# Altium footprint library EsoCore.PcbLib: 105 footprints (part 1 of 7)
Each footprint in its own frame and in the unit in brackets; x right, y up, seen from the top. Pads: shape width x height; smd on the part's side, far side on the other; paste and mask are expansions set on the pad; w line width, h text height; cw(c..) or ccw(c..) is an arc to the next point about the centre after c.
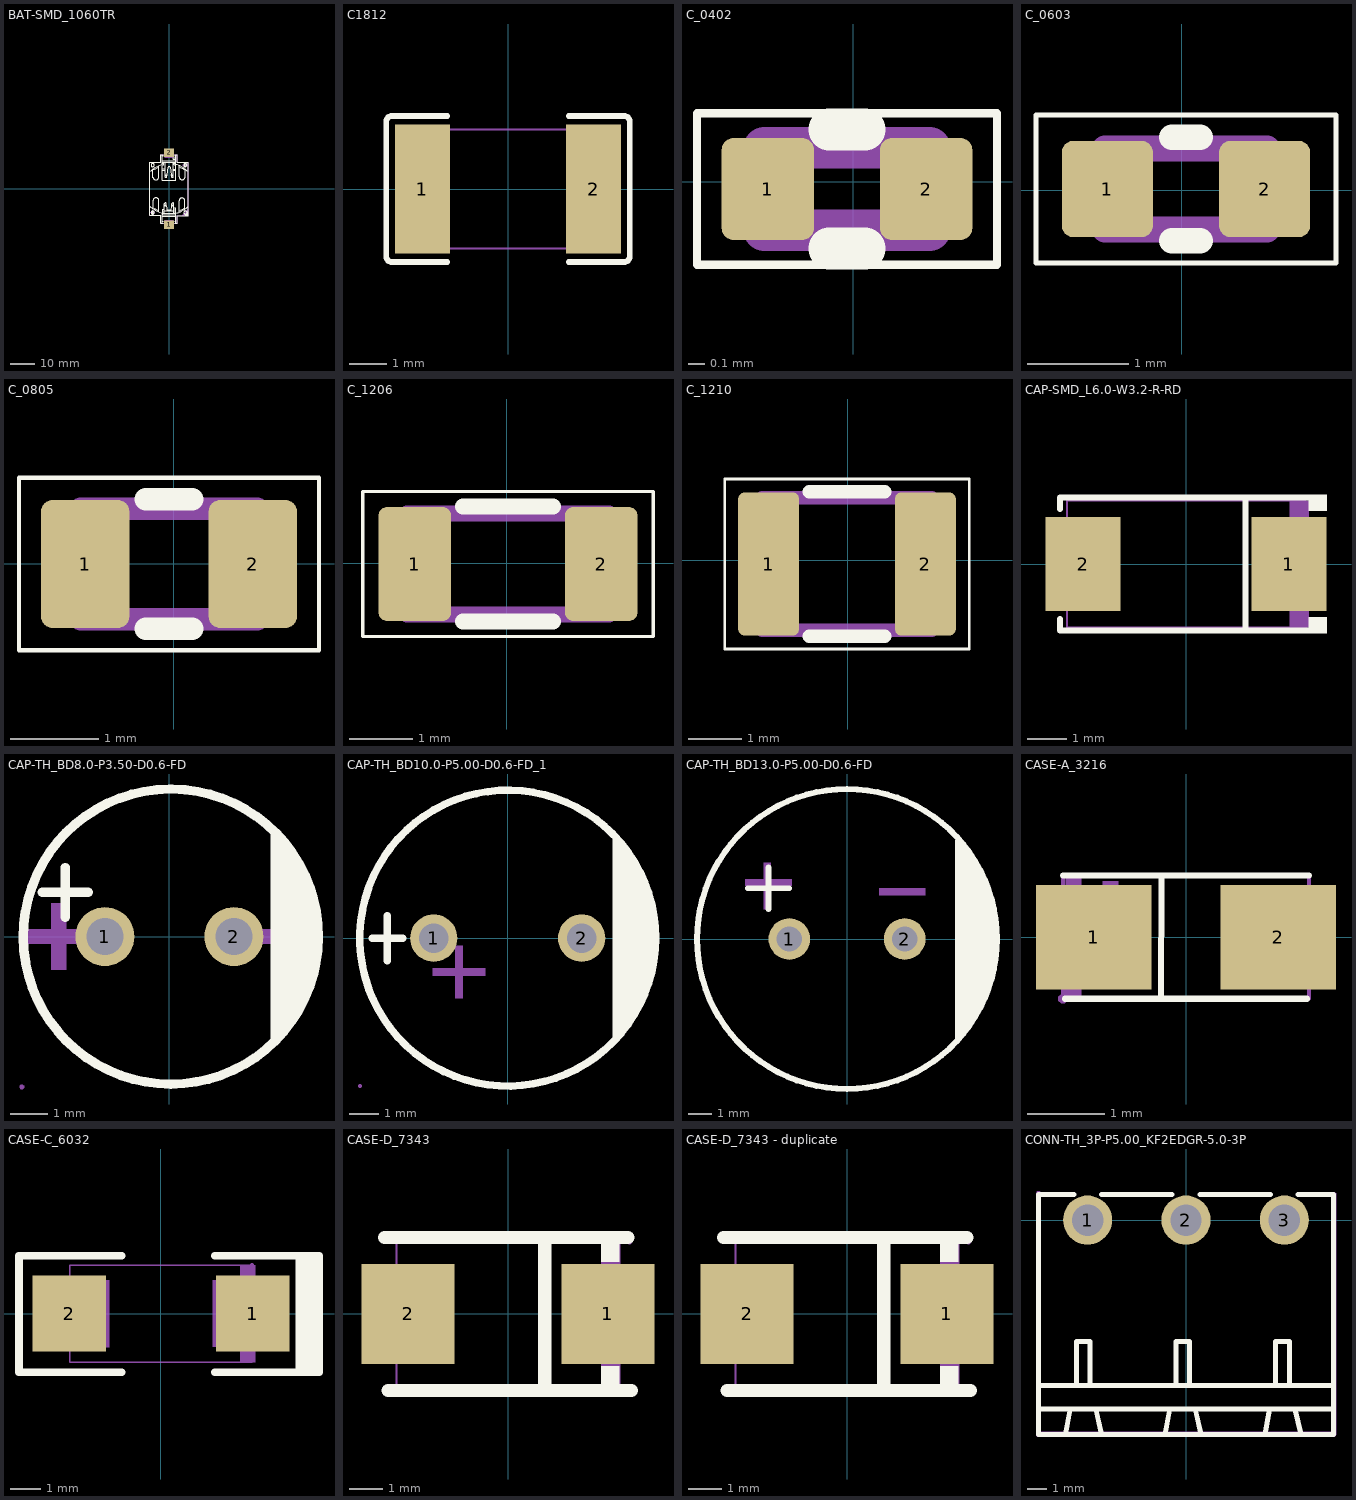
[diagram p0: the footprints below, top view; thin cyan lines are the x and y axes]

## BAT-SMD_1060TR [mm]
pads (2):
  rect 4.2x3.5 smd: 1(0,-14.988) 2(0,14.988)
Top Overlay:
  region: 7.9,-9.9 8,-9.8 8,-11.1 6.7,-11.1
  lines w0.254: -7.958,7.046 cw(c0.175,-0.902) -2.946,10.033 ; -7.95,-7.214 ccw(c-0.087,1.002) -2.72,-10.061 ; -7.442,-9.855 -6.172,-9.855 ; -6.807,-10.516 -6.807,-9.271 ; -6.706,8.077 -6.121,8.077 ccw(c-20.107,33.378) -4.267,9.195 ; -6.68,-8.179 -6.096,-8.179 cw(c-20.082,-33.48) -4.242,-9.296 ; -6.68,4.724 -6.68,8.179 ; -6.68,4.75 ccw(c-5.472,4.985) -4.242,4.928 ; -6.655,-8.153 -6.655,-4.699 cw(c-5.446,-4.935) -4.216,-4.877 -4.216,-9.576 ; -6.142,-9.863 cw(c-6.806,-9.856) -6.142,-9.85 ; -6.142,9.848 cw(c-6.806,9.854) -6.142,9.86 ; -4.242,4.902 -4.242,9.601 ; -2.896,10.744 -2.311,10.744 ; -2.896,14.2 -2.896,12.954 -2.896,12.319 -2.896,11.938 -2.896,3.632 -2.845,3.581 2.896,3.581 2.896,11.913 2.896,12.294 ; -2.87,13.792 -2.331,13.792 ; -2.845,11.176 2.896,11.176 ; -2.819,7.696 -1.676,7.696 ; -2.819,8.28 -1.676,8.28 ; -2.799,10.033 -2.261,10.033 -2.261,11.176 ; -2.794,11.659 2.819,11.659 ; -2.719,-13.554 -2.331,-13.554 ; -2.718,-14.176 -2.718,-10.744 ccw(c-2.692,-10.744) -2.692,-10.77 2.794,-10.77 ; -2.718,-11.328 ccw(c-2.667,-11.328) -2.667,-11.379 2.743,-11.379 ; -2.667,-10.744 -2.667,-8.534 -1.93,-8.534 -1.93,-9.982 ; -2.644,-10.135 cw(c-2.646,-10.06) -2.72,-10.061 ; -2.642,-9.449 -1.93,-9.449 ; -2.331,-14.2 -3.5,-14.2 -3.5,-11 -8,-11 -8,11 -3.5,11 -3.5,14.2 -2.331,14.2 ; -1.981,-10.033 cw(c-1.981,-10.084) -1.93,-10.084 ; -1.93,-9.119 -1.93,-6.198 cw(c-1.499,-6.282) -1.067,-6.198 -1.067,-6.553 ; -1.93,-6.985 -1.067,-6.985 ; -1.93,-6.553 -1.067,-6.553 ; -1.854,-9.093 2.057,-9.093 2.057,-6.172 ccw(c1.626,-6.257) 1.194,-6.172 1.194,-6.528 ; -1.626,5.563 -0.864,5.563 ; -1.626,11.151 -1.626,4.75 -1.118,4.75 -0.914,4.75 -0.914,5.512 -0.711,5.715 -0.711,5.918 ; -1.6,5.918 -0.711,5.918 ; -0.855,-8.763 0.94,-8.763 ; -0.813,-9.065 -1.067,-7.082 -1.067,-6.553 ; 0.94,-9.039 1.212,-6.915 ; 0.991,5.563 1.753,5.563 ; 1.727,5.918 0.838,5.918 ; 1.753,7.671 2.896,7.671 ; 1.753,8.255 2.896,8.255 ; 1.753,11.151 1.753,4.75 1.245,4.75 1.041,4.75 1.041,5.512 0.838,5.715 0.838,5.918 ; 2.057,-10.084 2.057,-8.636 2.794,-8.636 ; 2.057,-6.96 1.194,-6.96 1.194,-6.528 ; 2.057,-6.528 1.194,-6.528 ; 2.083,-9.55 2.794,-9.55 ; 2.108,-7.874 2.794,-7.874 2.794,-8.636 ; 2.261,11.176 2.261,10.033 2.799,10.033 ; 2.311,10.744 2.896,10.744 ; 2.331,-14.2 3.5,-14.2 3.5,-11.1 ; 2.331,-13.554 2.794,-13.554 ; 2.331,13.792 2.896,13.792 ; 2.331,14.2 3.5,14.2 3.5,11 8.001,11 ; 2.743,-14.2 2.743,-12.065 2.743,-10.135 ; 2.743,-10.061 -2.72,-10.061 ; 2.794,-10.185 ccw(c2.743,-10.185) 2.743,-10.135 ; 2.794,-10.084 2.794,-8.636 ; 2.883,10.117 cw(c-0.217,-0.824) 8.001,7.036 ; 2.896,13.03 1.702,13.03 1.702,12.294 2.896,12.294 ; 2.896,14.173 2.896,12.294 ; 4.191,-9.652 4.191,-4.953 cw(c5.421,-5.011) 6.629,-4.775 6.629,-8.23 ; 4.216,9.246 ccw(c20.056,33.429) 6.071,8.128 6.655,8.128 6.655,8.28 6.655,4.826 cw(c5.446,5.062) 4.216,5.004 4.216,9.652 ; 4.242,-9.347 cw(c20.082,-33.53) 6.096,-8.23 6.68,-8.23 ; 6.706,9.195 6.706,10.49 ; 7.371,9.848 cw(c6.706,9.854) 7.371,9.86 ; 7.498,-9.863 cw(c6.833,-9.856) 7.498,-9.85 ; 7.973,-7.287 cw(c0.11,0.928) 2.743,-10.135 ; 8,-9.681 8,-11.1 6.7,-11.1 ; 8,11 8,-9.8 6.7,-11.1 ; -0.711,5.918 -0.305,9.093 cw(c0.064,8.725) 0.432,9.093 0.838,5.918 ; 3.5,-11.1 3.81,-11.1 6.7,-11.1 ; 3.5,-11.1 3.5,-11.1
Mechanical 6:
  region: 8,-9.7 8,-11.1 5.6,-11.1 5.3,-11.1 8,-8.3
  region: -7.75,-9.65 -5.95,-9.65 -5.95,-9.95 -7.75,-9.95 -7.75,-9.85
  region: -7,-10.7 -7,-8.9 -6.7,-8.9 -6.7,-10.7 -6.8,-10.7
  region: 5.8,10 7.6,10 7.6,9.7 5.8,9.7 5.8,9.8
Mechanical 15:
  region: 8.06,-15.95 8.06,-15.975 8.025,-16.01 7.975,-16.01 7.94,-15.975 7.94,-15.95 7.94,-15.925 7.975,-15.89 8.025,-15.89 8.06,-15.925 8.06,-15.95
  region: -1.805,-15.95 -1.805,-12.95 1.805,-12.95 1.805,-15.95
  region: -1.805,12.95 -1.805,15.95 1.805,15.95 1.805,12.95
  lines w0.051: -8,-11 -8,11 -3.5,11 -3.5,14.2 -0.1,14.2 3.5,14.2 3.5,11 8,11 8,-9.8 6.7,-11 3.5,-11.1 3.5,-14.2 0,-14.2 -3.5,-14.2 -3.5,-11 -8,-11
3D body "CR2032 Lithium Battery-AP214.STEP": height 5.21, standoff 2, extent -9.957,-9.995 10.033,9.995
3D body "BAT23.step": height 5.6, standoff 0, extent -8,-15.65 8,15.65

## C1812 [mm]
pads (2):
  rect 1.485x3.456 smd paste-100 mask+0.051: 1(-2.293,0) 2(2.293,0)
Top Overlay:
  lines w0.152: -1.626,-1.957 -3.111,-1.957 cw(c-3.111,-1.804) -3.264,-1.804 -3.264,1.804 cw(c-3.111,1.804) -3.111,1.957 -1.626,1.957 ; 1.626,-1.957 3.111,-1.957 ccw(c3.111,-1.804) 3.264,-1.804 3.264,1.804 ccw(c3.111,1.804) 3.111,1.957 1.626,1.957
Top Paste:
  region: -1.55,-1.628 -1.55,-0.688 -1.65,-0.588 -1.955,-0.588 -2.055,-0.488 -2.055,0.488 -1.955,0.588 -1.65,0.588 -1.55,0.688 -1.55,1.628 -1.65,1.728 -2.935,1.728 -3.035,1.628 -3.035,-1.628 -2.935,-1.728 -1.65,-1.728
  region: 1.55,-1.628 1.55,-0.688 1.65,-0.588 1.955,-0.588 2.055,-0.488 2.055,0.488 1.955,0.588 1.65,0.588 1.55,0.688 1.55,1.628 1.65,1.728 2.935,1.728 3.035,1.628 3.035,-1.628 2.935,-1.728 1.65,-1.728
Mechanical 15:
  region: 2.3,-1.6 2.3,1.6 1.8,1.6 1.8,-1.6
  region: -2.3,-1.6 -2.3,1.6 -1.8,1.6 -1.8,-1.6
  region: -2.24,-1.6 -2.24,-1.625 -2.275,-1.66 -2.325,-1.66 -2.36,-1.625 -2.36,-1.6 -2.36,-1.575 -2.325,-1.54 -2.275,-1.54 -2.24,-1.575 -2.24,-1.6
  lines w0.051: -2.3,-1.6 2.3,-1.6 2.3,1.6 -2.3,1.6 -2.3,-1.6
3D body "c1812.step": height 2.6, standoff 0, extent -2.25,-1.6 2.25,1.6

## C_0402 [mm]
pads (2):
  rrect25% 0.56x0.62 smd mask+0: 1(-0.518,-0.044) 2(0.442,-0.044)
Top Overlay:
  lines w0.051: -0.948,-0.504 -0.948,0.416 0.872,0.416 0.872,-0.504 -0.948,-0.504
  lines w0.254: -0.146,-0.404 0.07,-0.404 ; -0.146,0.316 0.07,0.316
Mechanical 10:
  lines w0.254: -0.538,-0.294 0.462,-0.294 0.462,0.206 -0.538,0.206 -0.538,-0.294
  text "'.Designator'" at -0.882,-0.139 h0.25
3D body "C_0402_1005Metric.step": height 0.5, standoff 0, extent -0.54,-0.29 0.46,0.21

## C_0603 [mm]
pads (2):
  rrect25% 0.9x0.95 smd mask+0: 1(-0.731,0.012) 2(0.819,0.012)
Top Overlay:
  lines w0.051: -1.436,-0.718 -1.436,0.742 1.524,0.742 1.524,-0.718 -1.436,-0.718
  lines w0.254: -0.096,-0.498 0.185,-0.498 ; -0.096,0.522 0.185,0.522
Mechanical 10:
  lines w0.254: -0.756,-0.388 -0.756,0.412 0.844,0.412 0.844,-0.388 -0.756,-0.388
  text "'.Designator'" at -1.605,-0.198 h0.4
3D body "C_0603_1608Metric.step": height 0.8, standoff 0, extent -0.741,-0.39 0.859,0.41

## C_0805 [mm]
pads (2):
  rrect25% 1x1.45 smd mask+0: 1(-1.001,-0.005) 2(0.899,-0.005)
Top Overlay:
  lines w0.051: -1.751,-0.985 1.649,-0.985 1.649,0.975 -1.751,0.975 -1.751,-0.985
  lines w0.254: -0.313,-0.74 0.21,-0.74 ; -0.313,0.73 0.21,0.73
Mechanical 10:
  lines w0.254: -1.051,-0.63 0.949,-0.63 0.949,0.62 -1.051,0.62 -1.051,-0.63
  text "'.Designator'" at -1.942,-0.168 h0.5
3D body "C_0805_2012Metric.step": height 1.25, standoff 0, extent -1.05,-0.635 0.95,0.615

## C_1206 [mm]
pads (2):
  rrect22% 1.15x1.8 smd mask+0: 1(-1.458,-0.009) 2(1.492,-0.009)
Top Overlay:
  lines w0.051: -2.283,-1.159 -2.283,1.141 2.317,1.141 2.317,-1.159 -2.283,-1.159
  lines w0.254: -0.694,-0.919 0.728,-0.919 ; -0.694,0.901 0.728,0.901
Mechanical 10:
  lines w0.254: -1.583,-0.809 -1.583,0.791 1.617,0.791 1.617,-0.809 -1.583,-0.809
  text "'.Designator'" at -3.13,-0.307 h0.8
3D body "C_1206_3216Metric.step": height 1.6, standoff 0, extent -1.58,-0.81 1.62,0.79

## C_1210 [mm]
pads (2):
  rrect22% 1.15x2.7 smd mask+0: 1(-1.491,-0.074) 2(1.459,-0.074)
Top Overlay:
  lines w0.051: -2.316,-1.674 -2.316,1.526 2.284,1.526 2.284,-1.674 -2.316,-1.674
  lines w0.254: -0.728,-1.434 0.695,-1.434 ; -0.728,1.286 0.695,1.286
Mechanical 10:
  lines w0.254: -1.616,-1.324 -1.616,1.176 1.584,1.176 1.584,-1.324 -1.616,-1.324
  text "'.Designator'" at -1.094,-0.594 h0.8
3D body "C_1210_3225Metric.step": height 2.5, standoff 0, extent -1.61,-1.319 1.59,1.181

## CAP-SMD_L6.0-W3.2-R-RD [mm]
pads (2):
  rect 1.9x2.376 smd: 1(2.6,0) 2(-2.6,0)
Top Overlay:
  region: 3.1,1.752 3.1,1.34 3.557,1.34 3.557,1.752
  region: 3.1,-1.752 3.1,-1.34 3.557,-1.34 3.557,-1.752
  lines w0.152: -3.176,-1.391 -3.176,-1.676 3.176,-1.676 ; -3.176,1.391 -3.176,1.676 3.176,1.676 ; 1.505,-1.672 1.505,1.681
Mechanical 6:
  region: -2.86,-0.12 -2.86,0.12 -1.9,0.12 -1.9,-0.12
  region: 2.86,-0.12 2.86,0.12 1.9,0.12 1.9,-0.12
  region: 2.5,-0.8 2.5,0.8 2.26,0.8 2.26,-0.8
  region: 3.1,-1.6 3.1,-0.8 2.62,-0.8 2.62,-1.6
  region: 3.1,1.6 3.1,0.8 2.62,0.8 2.62,1.6
Mechanical 15:
  region: -3,-1.1 -3,1.1 -1.7,1.1 -1.7,-1.1
  region: 3,-1.1 3,1.1 1.7,1.1 1.7,-1.1
  region: 3.06,-1.6 3.06,-1.625 3.025,-1.66 2.975,-1.66 2.94,-1.625 2.94,-1.6 2.94,-1.575 2.975,-1.54 3.025,-1.54 3.06,-1.575 3.06,-1.6
  lines w0.051: -3,-1.6 -3,1.6 3,1.6 3,-1.6 -3,-1.6
3D body "CASE CX.step": height 2.8, standoff 0, extent -3,-1.6 3,1.6

## CAP-TH_BD8.0-P3.50-D0.6-FD [mm]
pads (2):
  round 1.6 hole 1: 1(-1.75,0) 2(1.75,0)
Top Overlay:
  region: 2.75,-3 2.941,-2.8 3.268,-2.355 3.536,-1.872 3.741,-1.359 3.88,-0.824 3.95,-0.276 3.95,0.276 3.88,0.824 3.741,1.359 3.536,1.872 3.268,2.355 2.941,2.8 2.75,3
  lines w0.254: -3.445,1.2 -2.2,1.2 ; -2.822,0.527 -2.822,1.873 ; 0.003,4 ccw(c0.038,0.001) 0.074,4
Mechanical 6:
  region: -3.2,0.5 -3.2,-0.9 -2.8,-0.9 -2.8,0.7 -2.8,0.9 -3.2,0.9
  region: -2.5,0.2 -3.9,0.2 -3.9,-0.2 -2.3,-0.2 -2.1,-0.2 -2.1,0.2
  region: 3.5,0.2 2.1,0.2 2.1,-0.2 3.7,-0.2 3.9,-0.2 3.9,0.2
Mechanical 15:
  region: -1.45,0 -1.45,-0.06 -1.496,-0.17 -1.58,-0.254 -1.69,-0.3 -1.81,-0.3 -1.92,-0.254 -2.004,-0.17 -2.05,-0.06 -2.05,0 -2.05,0.06 -2.004,0.17 -1.92,0.254 -1.81,0.3 -1.69,0.3 -1.58,0.254 -1.496,0.17 -1.45,0.06 -1.45,0
  region: 2.05,0 2.05,-0.06 2.004,-0.17 1.92,-0.254 1.81,-0.3 1.69,-0.3 1.58,-0.254 1.496,-0.17 1.45,-0.06 1.45,0 1.45,0.06 1.496,0.17 1.58,0.254 1.69,0.3 1.81,0.3 1.92,0.254 2.004,0.17 2.05,0.06 2.05,0
  region: -3.941,-4.072 -3.941,-4.096 -3.976,-4.132 -4.026,-4.132 -4.061,-4.096 -4.061,-4.072 -4.061,-4.047 -4.026,-4.012 -3.976,-4.012 -3.941,-4.047 -3.941,-4.072
  lines w0.051: -0.003,-4.072 cw(c-0.001,-0.072) 0,-4.072 -0.003,-4.072
3D body "super_cap20f.step": height 8, standoff -3.5, extent -4,-4 4,4

## CAP-TH_BD10.0-P5.00-D0.6-FD_1 [mm]
pads (2):
  round 1.6 hole 1 paste-2539.97 mask+0.05: 1(-2.5,0) 2(2.5,0)
Top Overlay:
  circle w0.254: c0,0 r5
  region: 3.556,3.556 3.556,-3.556 4.318,-2.54 4.826,-1.016 5.08,0.508 4.826,1.524
  lines w0.254: -4.572,0 -3.556,0 ; -4.064,-0.762 -4.064,0.762
Mechanical 6:
  region: -1.778,-0.762 -1.778,-2.032 -1.524,-2.032 -1.524,-0.254 -1.778,-0.254
  region: -2.54,-1.016 -0.762,-1.016 -0.762,-1.27 -2.54,-1.27
Mechanical 15:
  region: -4.94,-5 -4.94,-5.025 -4.975,-5.06 -5.025,-5.06 -5.06,-5.025 -5.06,-5 -5.06,-4.975 -5.025,-4.94 -4.975,-4.94 -4.94,-4.975 -4.94,-5
  region: 2.8,0 2.8,-0.06 2.754,-0.17 2.67,-0.254 2.56,-0.3 2.44,-0.3 2.33,-0.254 2.246,-0.17 2.2,-0.06 2.2,0 2.2,0.06 2.246,0.17 2.33,0.254 2.44,0.3 2.56,0.3 2.67,0.254 2.754,0.17 2.8,0.06 2.8,0
  region: -2.2,0 -2.2,-0.06 -2.246,-0.17 -2.33,-0.254 -2.44,-0.3 -2.56,-0.3 -2.67,-0.254 -2.754,-0.17 -2.8,-0.06 -2.8,0 -2.8,0.06 -2.754,0.17 -2.67,0.254 -2.56,0.3 -2.44,0.3 -2.33,0.254 -2.246,0.17 -2.2,0.06 -2.2,0
  lines w0.051: -5,0 cw(c0,0) 5,0 cw(c0,0) -5,0
3D body "470uf.step": height 12.41, standoff -3.5, extent -5.005,-4.995 5.005,4.99

## CAP-TH_BD13.0-P5.00-D0.6-FD [mm]
pads (2):
  round 1.8 hole 1.1: 1(-2.5,0) 2(2.5,0)
Top Overlay:
  circle w0.254: c-0.001,0 r6.5
  region: 4.7,4.3 4.7,-4.5 5.8,-3 6.3,-1.7 6.4,-0.5 6.3,1.5 5.7,3.2
  lines w0.254: -4.301,2.2 -2.501,2.2 ; -3.401,1.3 -3.401,3.1
Mechanical 6:
  region: 4.72,4.286 4.72,-4.514 5.82,-3.014 6.32,-1.714 6.42,-0.514 6.32,1.486 5.72,3.186
  region: -4.4,2.6 -2.5,2.6 -2.4,2.6 -2.4,2.5 -2.4,2.3 -4.4,2.3
  region: -3.6,1.3 -3.6,3.2 -3.6,3.3 -3.5,3.3 -3.3,3.3 -3.3,1.3
  region: 1.4,2.2 3.3,2.2 3.4,2.2 3.4,2.1 3.4,1.9 1.4,1.9
Mechanical 15:
  region: -2.2,0 -2.2,-0.06 -2.246,-0.17 -2.33,-0.254 -2.44,-0.3 -2.56,-0.3 -2.67,-0.254 -2.754,-0.17 -2.8,-0.06 -2.8,0 -2.8,0.06 -2.754,0.17 -2.67,0.254 -2.56,0.3 -2.44,0.3 -2.33,0.254 -2.246,0.17 -2.2,0.06 -2.2,0
  region: 2.8,0 2.8,-0.06 2.754,-0.17 2.67,-0.254 2.56,-0.3 2.44,-0.3 2.33,-0.254 2.246,-0.17 2.2,-0.06 2.2,0 2.2,0.06 2.246,0.17 2.33,0.254 2.44,0.3 2.56,0.3 2.67,0.254 2.754,0.17 2.8,0.06 2.8,0
  lines w0.051: -6.5,0 cw(c0,0) 6.5,0 cw(c0,0) -6.5,0
3D body "cap1000ufx.step": height 20.01, standoff -3.5, extent -6.255,-6.239 6.255,6.239

## CASE-A_3216 [mm]
pads (2):
  rect 1.5x1.359 smd: 1(-1.2,0) 2(1.2,0)
Top Overlay:
  lines w0.08: -1.6,0.8 1.6,0.8 ; -1.575,-0.8 1.575,-0.8 ; -0.323,-0.8 -0.32,0.8
Mechanical 6:
  region: 1.501,0.13 1.501,-0.08 0.661,-0.08 0.661,0.13
  region: -1.563,0.813 -1.36,0.813 -1.36,0.483 -1.563,0.483
  region: -1.363,-0.813 -1.567,-0.813 -1.567,-0.483 -1.363,-0.483
  region: -0.61,0.13 -0.61,-0.08 -1.45,-0.08 -1.45,0.13
  region: -1.081,0.724 -0.878,0.724 -0.878,-0.673 -1.081,-0.673
Mechanical 15:
  region: -1.6,-0.74 -1.575,-0.74 -1.54,-0.775 -1.54,-0.825 -1.575,-0.86 -1.6,-0.86 -1.625,-0.86 -1.66,-0.825 -1.66,-0.775 -1.625,-0.74 -1.6,-0.74
  region: -0.8,0.625 -0.8,-0.575 -1.6,-0.575 -1.6,0.625
  region: 1.6,0.625 1.6,-0.575 0.8,-0.575 0.8,0.625
  lines w0.051: -1.6,-0.8 1.6,-0.8 1.6,0.8 -1.6,0.8 -1.6,-0.8
3D body "CASEAX.step": height 1.7, standoff 0, extent -1.553,-0.812 1.647,0.788

## CASE-C_6032 [mil]
pads (2):
  rect 95.5x98.42 smd: 1(119,0) 2(-119,0)
Top Overlay:
  region: 205,75 205,-76 183,-76 181,-74 181,73
  lines w10: -51,-76 -184,-76 -184,75 -51,75 ; 70,-76 74,-76 205,-76 205,75 74,75 70,75
  lines w13: 181,-74 181,73
Mechanical 6:
  region: -112.6,-4.72 -112.6,4.73 -74.8,4.73 -74.8,-4.72
  region: 112.6,-4.72 112.6,4.73 74.8,4.73 74.8,-4.72
  region: 98.43,-31.49 98.43,31.5 88.98,31.5 88.98,-31.49
  region: 122.05,-62.99 122.05,-31.49 103.15,-31.49 103.15,-62.99
  region: 122.05,62.99 122.05,31.5 103.15,31.5 103.15,62.99
Mechanical 15:
  region: -118.12,-43.3 -118.12,43.31 -66.94,43.31 -66.94,-43.3
  region: 118.1,-43.27 118.1,43.34 66.92,43.34 66.92,-43.27
  region: 120.47,62.99 120.47,62.01 119.09,60.63 117.13,60.63 115.75,62.01 115.75,62.99 115.75,63.97 117.13,65.35 119.09,65.35 120.47,63.97 120.47,62.99
  lines w2: -118.11,-62.99 -118.11,62.99 118.11,62.99 118.11,-62.99 -118.11,-62.99
3D body "case_c.step": height 110.31, standoff 0, extent -118.11,-62.99 118.11,62.99

## CASE-D_7343 [mm]
pads (2):
  rect 2.799x3.01 smd: 1(3,0) 2(-3,0)
Top Overlay:
  region: 3.348,-2.3 3.348,-1.565 2.798,-1.565 2.798,-2.285 2.813,-2.3 2.968,-2.3
  region: 2.798,2.3 2.798,1.565 3.348,1.565 3.348,2.285 3.333,2.3 3.178,2.3
  lines w0.4: -3.7,2.3 3.6,2.3 ; -3.6,-2.3 3.7,-2.3 ; 1.1,-2.3 1.101,2.3
Mechanical 6:
  region: 3.35,-2.15 3.35,-1.205 2.8,-1.205 2.8,-2.15
  region: 2.8,2.15 2.8,1.205 3.35,1.205 3.35,2.15
  region: 2.8,0.85 2.8,-0.85 2.4,-0.85 2.4,0.85
  region: 1.766,0.245 3.466,0.245 3.466,-0.155 1.766,-0.155
  region: -3.6,0.2 -1.9,0.2 -1.9,-0.2 -3.6,-0.2
Mechanical 15:
  region: 3.71,2.15 3.71,2.125 3.675,2.09 3.625,2.09 3.59,2.125 3.59,2.15 3.59,2.175 3.625,2.21 3.675,2.21 3.71,2.175 3.71,2.15
  region: 3.65,-1.2 2.35,-1.2 2.35,1.2 3.65,1.2
  region: -2.35,-1.2 -3.65,-1.2 -3.65,1.2 -2.35,1.2
  lines w0.051: -3.35,-2.15 3.35,-2.15 3.35,2.15 -3.35,2.15 -3.35,-2.15
3D body "CASE-D.step": height 3.07, standoff 0, extent -3.65,-2.15 3.65,2.15

## CASE-D_7343 - duplicate [mm]
pads (2):
  rect 2.799x3.01 smd: 1(3,0) 2(-3,0)
Top Overlay:
  region: 2.798,2.3 2.798,1.565 3.348,1.565 3.348,2.285 3.333,2.3 3.178,2.3
  region: 3.348,-2.3 3.348,-1.565 2.798,-1.565 2.798,-2.285 2.813,-2.3 2.968,-2.3
  lines w0.4: -3.7,2.3 3.6,2.3 ; -3.6,-2.3 3.7,-2.3 ; 1.1,-2.3 1.101,2.3
Mechanical 6:
  region: -3.6,0.2 -1.9,0.2 -1.9,-0.2 -3.6,-0.2
  region: 1.766,0.245 3.466,0.245 3.466,-0.155 1.766,-0.155
  region: 2.8,0.85 2.8,-0.85 2.4,-0.85 2.4,0.85
  region: 2.8,2.15 2.8,1.205 3.35,1.205 3.35,2.15
  region: 3.35,-2.15 3.35,-1.205 2.8,-1.205 2.8,-2.15
Mechanical 15:
  region: -2.35,-1.2 -3.65,-1.2 -3.65,1.2 -2.35,1.2
  region: 3.65,-1.2 2.35,-1.2 2.35,1.2 3.65,1.2
  region: 3.71,2.15 3.71,2.125 3.675,2.09 3.625,2.09 3.59,2.125 3.59,2.15 3.59,2.175 3.625,2.21 3.675,2.21 3.71,2.175 3.71,2.15
  lines w0.051: -3.35,-2.15 -3.35,2.15 3.35,2.15 3.35,-2.15 -3.35,-2.15
3D body "case_d.step": height 3.07, standoff 0, extent -3.65,-2.15 3.65,2.15

## CONN-TH_3P-P5.00_KF2EDGR-5.0-3P [mm]
pads (3):
  round 2.5 hole 1.6 paste-2539.97 mask+0.051: 1(-5,0) 2(0,0) 3(5,0)
Top Overlay:
  lines w0.254: -7.5,-9.615 7.5,-9.615 ; -7.5,-8.4 7.5,-8.4 ; -6.118,-10.879 -5.884,-9.598 ; -5.707,1.3 -7.5,1.3 -7.5,-10.9 7.5,-10.9 7.5,1.3 5.707,1.3 ; -5.573,-8.395 -5.573,-6.163 -4.869,-6.163 -4.869,-8.395 -4.869,-8.322 ; -4.589,-9.598 -4.297,-10.879 ; -4.293,1.3 -0.707,1.3 ; -1.06,-10.901 -0.826,-9.62 ; -0.52,-8.4 -0.52,-6.167 0.183,-6.167 0.183,-8.4 0.183,-8.326 ; 0.47,-9.62 0.762,-10.901 ; 0.707,1.3 4.293,1.3 ; 4.02,-10.901 4.254,-9.62 ; 4.56,-8.4 4.56,-6.167 5.263,-6.167 5.263,-8.4 ; 5.55,-9.62 5.842,-10.901
Mechanical 15:
  region: -7.373,1.35 -7.373,-10.773 7.373,-10.773 7.373,1.3 7.373,1.353 7.447,1.427 7.553,1.427 7.627,1.353 7.627,1.3 7.627,-10.9 7.627,-10.925 7.608,-10.972 7.572,-11.008 7.525,-11.027 7.5,-11.027 -7.5,-11.027 -7.525,-11.027 -7.572,-11.008 -7.608,-10.972 -7.627,-10.925 -7.627,-10.9 -7.627,1.35 -7.627,1.403 -7.553,1.477 -7.447,1.477 -7.373,1.403 -7.373,1.35
3D body "3Pt.step": height 8.3, standoff -4.2, extent -7.5,-10.875 7.5,1.325